# Altium footprint library res.PcbLib: 2 footprints
Each footprint in its own frame and in the unit in brackets; x right, y up, seen from the top. Pads: shape width x height; smd on the part's side, far side on the other; paste and mask are expansions set on the pad; w line width, h text height; cw(c..) or ccw(c..) is an arc to the next point about the centre after c.
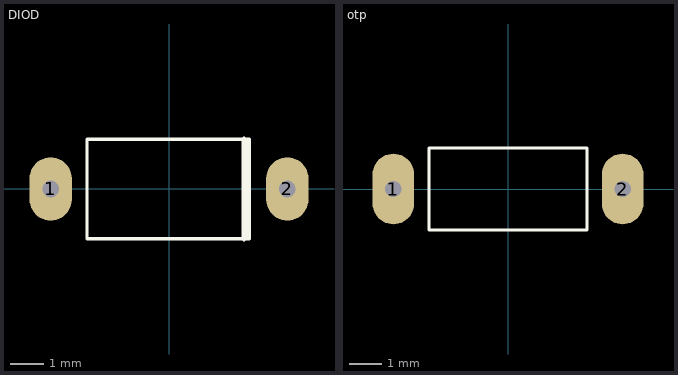
[diagram p0: the footprints below, top view; thin cyan lines are the x and y axes]

## DIOD [mil]
pads (2):
  oval 50x75 hole 19.68: 1(-140,0) 2(140,0)
Top Overlay:
  lines w4: 93,-59.11 93,59 ; -97,-59.06 -97,59.06 95,59.06 95,-59.06 -97,-59.06
  lines w6: 89,-59.06 89,59.06

## otp [mm]
pads (2):
  oval 1.27x2.159 hole 0.5: 1(-3.5,0) 2(3.5,0)
Top Overlay:
  lines w0.102: -2.413,-1.25 2.413,-1.25 2.413,1.25 -2.413,1.25 -2.413,-1.25